# Altium footprint library DataCollection.PcbLib: 33 footprints (part 3 of 3)
Each footprint in its own frame and in the unit in brackets; x right, y up, seen from the top. Pads: shape width x height; smd on the part's side, far side on the other; paste and mask are expansions set on the pad; w line width, h text height; cw(c..) or ccw(c..) is an arc to the next point about the centre after c.
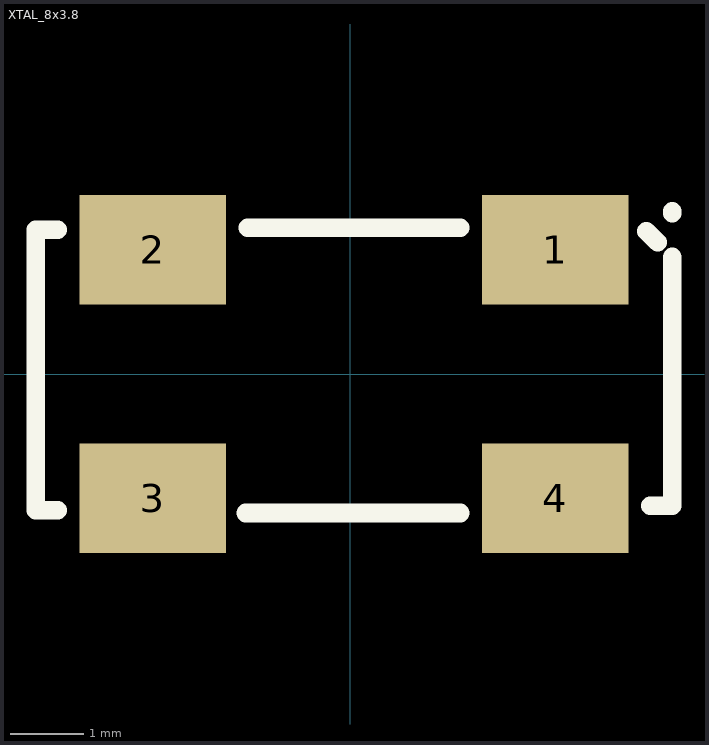
[diagram p2: the footprint, top view; thin cyan lines are the x and y axes]

## XTAL_8x3.8 [mm] "四脚晶振"
height 4
pads (4):
  rect 2x1.5 smd: 1(2.8,1.7) 2(-2.7,1.7) 3(-2.7,-1.7) 4(2.8,-1.7)
Top Overlay:
  lines w0.254: -4,-1.865 -4.3,-1.865 -4.3,1.969 -4,1.969 ; -1.432,-1.9 1.5,-1.9 ; -1.4,2 1.5,2 ; 4.046,1.954 4.2,1.8 ; 4.1,-1.8 4.4,-1.8 4.4,1.6 ; 4.4,2.2 4.4,2.225